# Altium footprint library hole.PcbLib: 1 footprints
Each footprint in its own frame and in the unit in brackets; x right, y up, seen from the top. Pads: shape width x height; smd on the part's side, far side on the other; paste and mask are expansions set on the pad; w line width, h text height; cw(c..) or ccw(c..) is an arc to the next point about the centre after c.
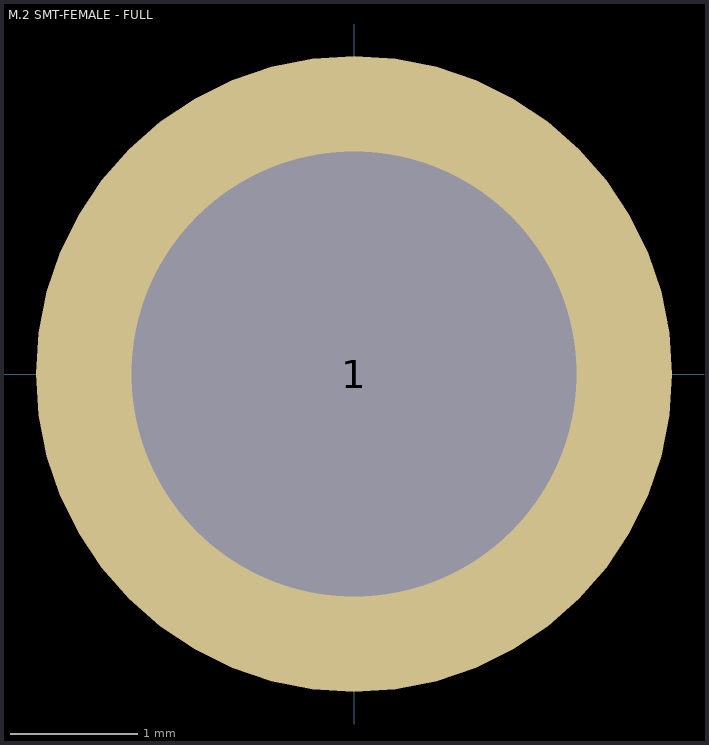
[diagram p0: the footprint, top view; thin cyan lines are the x and y axes]

## M.2 SMT-FEMALE - FULL [mm] "Connector; Plug"
pads (1):
  round 5 / inner round 4 / far side round 4 hole 3.5 paste+0 mask+0.051: 1(0,0)
3D body "M2-nut_smt.stp": height 2.46, standoff -1.04, extent -2.258,-2.239 2.242,2.261